# Altium footprint library Barsotion_PcbLib.PcbLib: 66 footprints (part 4 of 5)
Each footprint in its own frame and in the unit in brackets; x right, y up, seen from the top. Pads: shape width x height; smd on the part's side, far side on the other; paste and mask are expansions set on the pad; w line width, h text height; cw(c..) or ccw(c..) is an arc to the next point about the centre after c.
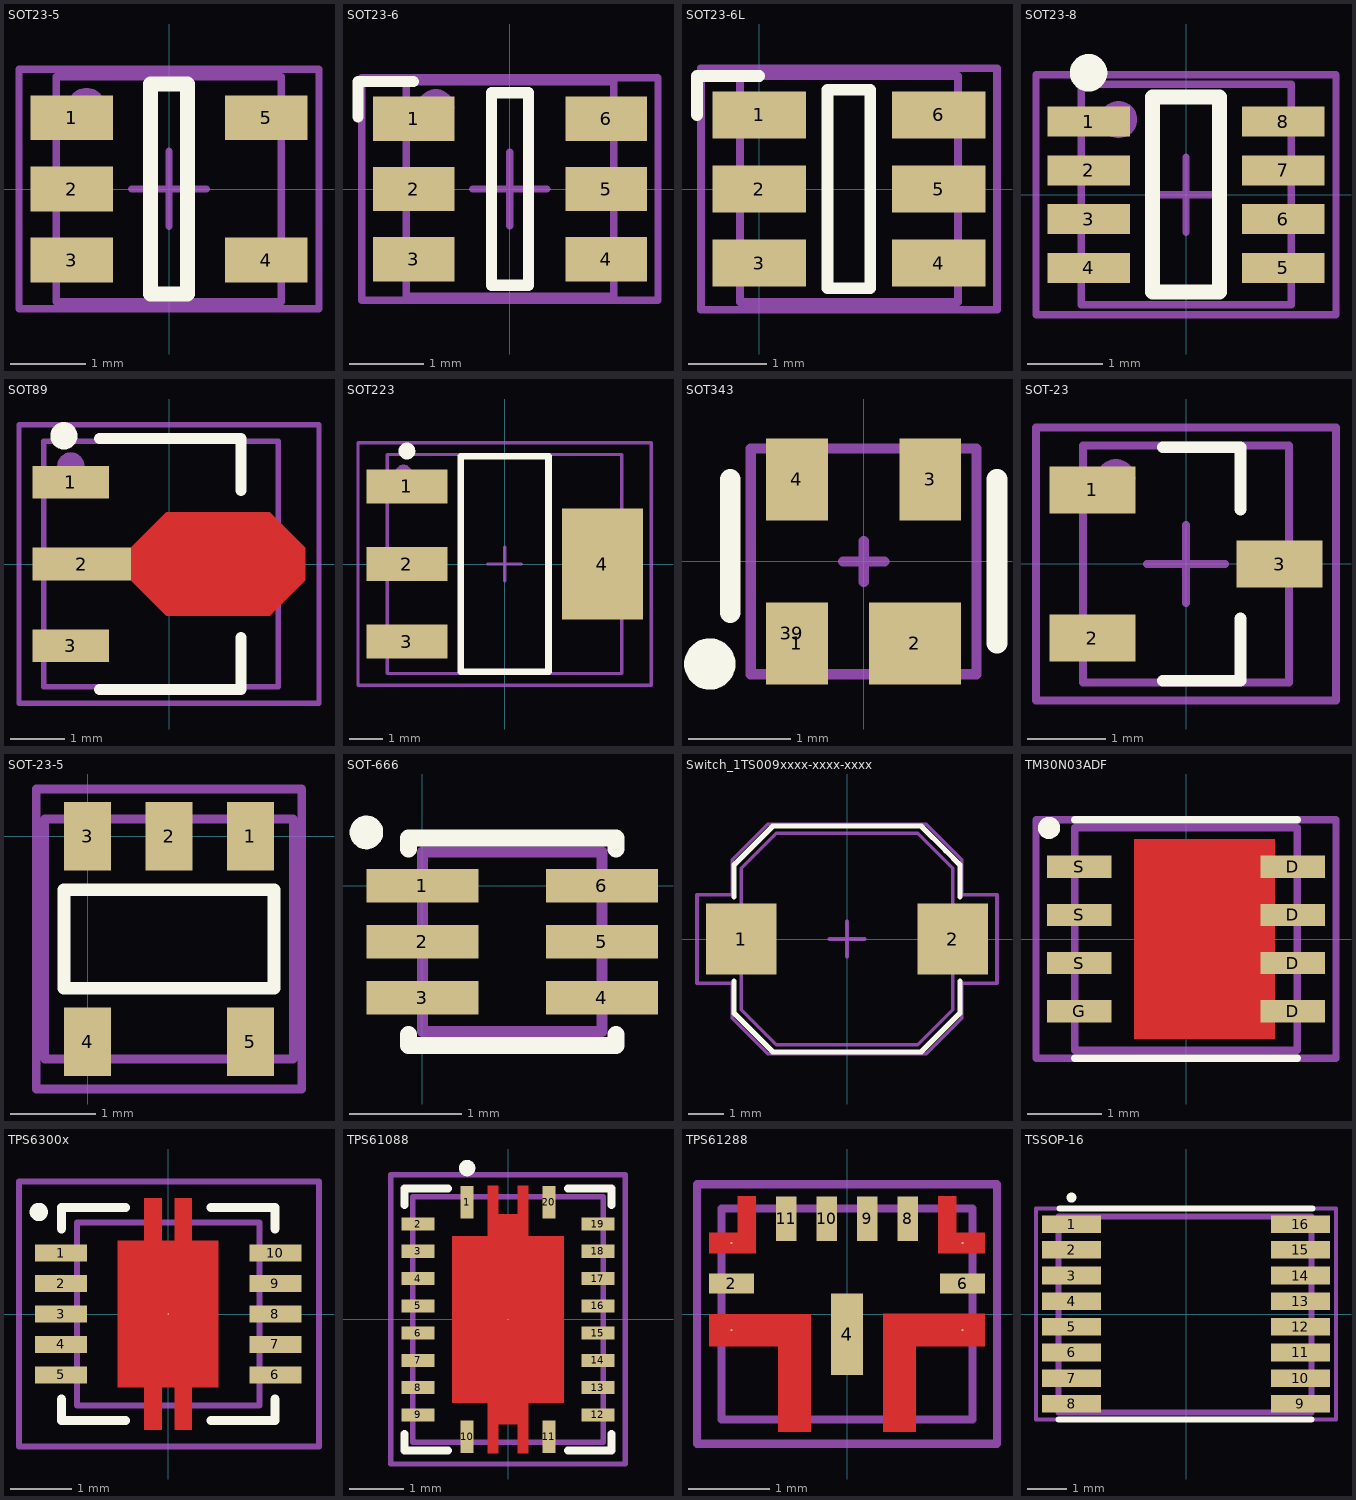
[diagram p3: the footprints below, top view; thin cyan lines are the x and y axes]

## SOT23-5 [mm] "pitch 0.95 mm"
height 1.45
pads (6):
  rect 1.1x0.6 smd: 1(-1.3,0.95) 2(-1.3,0) 3(-1.3,-0.95) 4(1.3,-0.95) 5(1.3,0.95)
  round 0.5 on Mech1: ""(-1.1,1.1)
Top Overlay:
  lines w0.2: -0.25,-1.4 -0.25,1.4 0.25,1.4 0.25,-1.4 -0.25,-1.4
Mechanical 13:
  lines w0.1: -1.5,-1.5 -1.5,1.5 1.5,1.5 1.5,-1.5 -1.5,-1.5
Mechanical 15:
  lines w0.1: -0.5,0 0.5,0 ; 0,-0.5 0,0.5 ; -2,-1.6 2,-1.6 2,1.6 -2,1.6 -2,-1.6
3D body "SOT23-5-1.step": height 1.3, standoff 0, extent -1.5,-1.5 1.5,1.5

## SOT23-6 [mm] "pitch 0.95 mm"
height 1.1
pads (7):
  rect 1.1x0.6 smd: 1(-1.3,0.95) 2(-1.3,0) 3(-1.3,-0.95) 4(1.3,-0.95) 5(1.3,0) 6(1.3,0.95)
  round 0.5 on Mech1: ""(-1,1.1)
Top Overlay:
  lines w0.15: -2.05,0.975 -2.05,1.45 -1.3,1.45 ; -0.25,-1.3 0.25,-1.3 0.25,1.3 -0.25,1.3 -0.25,-1.3
Mechanical 13:
  lines w0.1: -1.4,-1.45 1.4,-1.45 1.4,1.45 -1.4,1.45 -1.4,-1.45
Mechanical 15:
  lines w0.1: -0.5,0 0.5,0 ; 0,-0.5 0,0.5 ; -2,-1.5 -2,1.5 2,1.5 2,-1.5 -2,-1.5
3D body "User Library-SOT23-6-2.STEP": height 1.45, standoff 0, extent -1.4,-1.45 1.4,1.45

## SOT23-6L [mm]
pads (6):
  rect 1.2x0.6 smd: 1(0,0.95) 2(0,0) 3(0,-0.95) 4(2.3,-0.95) 5(2.3,0)
  rect 1.2x0.6 smd paste+0 mask+0.102: 6(2.3,0.95)
Top Overlay:
  lines w0.15: -0.8,0.95 -0.8,1.425 -0.8,1.45 0,1.45 ; 0.875,-1.275 1.425,-1.275 1.425,1.275 0.875,1.275 0.875,-1.275
Mechanical 13:
  lines w0.1: -0.25,-1.45 2.55,-1.45 2.55,1.45 -0.25,1.45 -0.25,-1.45
Mechanical 15:
  lines w0.1: -0.75,-1.55 3.05,-1.55 3.05,1.55 -0.75,1.55 -0.75,-1.55
3D body "SOT-23-6.step": height 1.55, standoff 0, extent -0.25,-1.45 2.55,1.45

## SOT23-8 [mm] "pitch 0.95 mm"
height 1.45
pads (9):
  rect 1.1x0.4 smd: 1(-1.3,0.975) 2(-1.3,0.325) 3(-1.3,-0.325) 4(-1.3,-0.975) 5(1.3,-0.975) 6(1.3,-0.325) 7(1.3,0.325) 8(1.3,0.975)
  round 0.5 on Mech1: ""(-0.9,1)
Top Overlay:
  circle w0.25: c-1.3,1.625 r0.125
  lines w0.2: -0.45,-1.3 0.45,-1.3 0.45,1.3 -0.45,1.3 -0.45,-1.3
Mechanical 1:
  lines w0.1: -1.4,-1.47 1.4,-1.47 1.4,1.47 -1.4,1.47 -1.4,-1.47
Mechanical 15:
  lines w0.1: -0.5,0 0.5,0 ; 0,-0.5 0,0.5 ; -2,-1.6 2,-1.6 2,1.6 -2,1.6 -2,-1.6
3D body "User Library-sot238.STEP": height 1.2, standoff 0, extent -1.4,-1.495 1.4,1.445

## SOT89 [mm]
height 1.6
pads (4):
  rect 1.4x0.6 smd: 1(-1.8,1.5) 3(-1.8,-1.5)
  rect 1.8x0.6 smd: 2(-1.6,0)
  round 0.5 on Mech1: ""(-1.8,1.8)
Top Layer:
  region: -0.7,0.3 -0.05,0.95 1.85,0.95 2.5,0.3 2.5,-0.3 1.85,-0.95 -0.05,-0.95 -0.7,-0.3
Top Overlay:
  circle w0.25: c-1.927,2.35 r0.125
  lines w0.2: -1.278,-2.3 1.322,-2.3 1.322,-1.35 ; -1.278,2.3 1.322,2.3 1.322,1.35
Mechanical 1:
  lines w0.1: -2.3,-2.25 -2.3,2.25 2,2.25 2,-2.25 -2.3,-2.25
Mechanical 15:
  lines w0.1: -0.477,0 0.523,0 ; 0.022,-0.5 0.022,0.5 ; -2.75,-2.55 2.75,-2.55 2.75,2.55 -2.75,2.55 -2.75,-2.55
3D body "SOT-89.step": height 1.51, standoff 0, extent -2.3,-2.25 2,2.25

## SOT223 [mm] "SOT223, 4-Leads, Body 6,50x7,00mm (avg), Pitch 2,30mm, IPC Medium Density"
height 1.8
pads (5):
  rect 2.4x1 smd: 1(-2.9,2.3) 2(-2.9,0) 3(-2.9,-2.3)
  rect 2.4x3.3 smd: 4(2.9,0)
  round 0.5 on Mech1: ""(-3,2.7)
Top Overlay:
  circle w0.25: c-2.9,3.35 r0.125
  lines w0.2: -1.3,-3.2 -1.3,3.2 1.3,3.2 1.3,-3.2 -1.3,-3.2
Mechanical 1:
  lines w0.1: -3.48,-3.25 3.48,-3.25 3.48,3.25 -3.48,3.25 -3.48,-3.25
Mechanical 15:
  lines w0.1: -0.5,0 0.5,0 ; 0,-0.5 0,0.5 ; -4.35,-3.6 -4.35,3.6 4.35,3.6 4.35,-3.6 -4.35,-3.6
3D body "SOT-223-3.step": height 1.65, standoff -0.03, extent -3.48,-3.25 3.48,3.25

## SOT343 [mm]
height 0.9
pads (5):
  rect 0.6x0.8 smd: 1(-0.65,-0.8) 3(0.65,0.8) 4(-0.65,0.8)
  rect 0.9x0.8 smd: 2(0.5,-0.8)
  round 0.5 on Mech1: 39(-0.7,-0.7)
Top Overlay:
  circle w0.25: c-1.5,-1 r0.125
  lines w0.2: -1.3,-0.5 -1.3,0.8 ; 1.3,-0.8 1.3,0.8
Mechanical 1:
  lines w0.1: -1.1,-1.1 -1.1,1.1 1.1,1.1 1.1,-1.1 -1.1,-1.1
Mechanical 15:
  lines w0.1: -0.2,0 0.2,0 ; 0,-0.2 0,0.2 ; -1.1,-1.1 -1.1,1.1 1.1,1.1 1.1,-1.1 -1.1,-1.1
3D body "User Library-SOT343-1.STEP": height 1, standoff 0, extent -1.1,-1.1 1.1,1.1

## SOT-23 [mm]
height 1.1
pads (4):
  rect 1.1x0.6 smd: 1(-1.2,0.95) 2(-1.2,-0.95) 3(1.2,0)
  round 0.5 on Mech1: ""(-0.9,1.1)
Top Overlay:
  lines w0.15: -0.3,-1.5 0.7,-1.5 0.7,-0.7 ; -0.3,1.5 0.7,1.5 0.7,0.7
Mechanical 13:
  lines w0.1: -1.32,-1.52 -1.32,1.52 1.32,1.52 1.32,-1.52 -1.32,-1.52
Mechanical 15:
  lines w0.1: -0.5,0 0.5,0 ; 0,-0.5 0,0.5 ; -1.925,-1.75 1.925,-1.75 1.925,1.75 -1.925,1.75 -1.925,-1.75
3D body "SOT95P237X112-3N.step": height 1.12, standoff 0, extent -1.32,-1.52 1.32,1.52

## SOT-23-5 [mm]
pads (5):
  rect 0.55x0.8 smd mask+0.05: 1(1.9,0) 2(0.95,0) 3(0,0) 4(0,-2.4) 5(1.9,-2.4)
Top Overlay:
  lines w0.15: -0.275,-1.775 2.175,-1.775 2.175,-0.625 -0.275,-0.625 -0.275,-1.775
Mechanical 13:
  lines w0.1: -0.5,-2.6 2.4,-2.6 2.4,0.2 -0.5,0.2 -0.5,-2.6
Mechanical 15:
  lines w0.1: -0.6,-2.95 2.5,-2.95 2.5,0.55 -0.6,0.55 -0.6,-2.95
3D body "SOT-23-5.step": height 1.55, standoff 0, extent -0.5,-2.6 2.4,0.2

## SOT-666 [mm]
pads (6):
  rect 1x0.3 smd: 1(0,0) 2(0,-0.5) 3(0,-1) 4(1.6,-1) 5(1.6,-0.5) 6(1.6,0)
Top Overlay:
  circle w0.15: c-0.5,0.475 r0.075
  lines w0.15: -0.125,-1.325 -0.125,-1.425 1.725,-1.425 1.725,-1.325 ; -0.125,0.325 -0.125,0.425 1.725,0.425 1.725,0.325
Mechanical 13:
  lines w0.1: 0,-1.3 1.6,-1.3 1.6,0.3 0,0.3 0,-1.3
3D body "SOT-666.step": height 0.55, standoff 0, extent 0,-1.3 1.6,0.3

## Switch_1TS009xxxx-xxxx-xxxx [mm]
pads (2):
  rect 2x2 smd mask+0.05: 1(-3,0) 2(3,0)
Top Overlay:
  lines w0.15: -3.2,-1.2 -3.2,-2.1 -2.1,-3.2 2.1,-3.2 3.2,-2.1 3.2,-1.2 ; -3.2,1.2 -3.2,2.1 -2.1,3.2 0.1,3.2 2.1,3.2 2.8,2.5 3.2,2.1 3.2,1.2
Mechanical 1:
  lines w0.1: -0.5,0 0.5,0 ; 0,-0.5 0,0.5
Mechanical 13:
  lines w0.1: -3,-2 -3,2 -2,3 2,3 3,2 3,-2 2,-3 -2,-3 -3,-2
Mechanical 15:
  lines w0.1: -4.25,-1.25 -3.25,-1.25 -3.25,-2.25 -2.25,-3.25 2.25,-3.25 3.25,-2.25 3.25,-1.25 4.25,-1.25 4.25,1.25 3.25,1.25 3.25,2.25 2.25,3.25 -2.25,3.25 -3.25,2.25 -3.25,1.25 -4.25,1.25 -4.25,0 -4.25,-1.25
3D body "SW_Push_1TS009xxxx-xxxx-xxxx_6x6x5mm.step": height 5, standoff 0, extent -3.3,-3 3.3,3

## TM30N03ADF [mm]
pads (8):
  rect 0.875x0.3 smd mask+0.05: D(1.44,-0.975) D(1.44,-0.325) D(1.44,0.325) D(1.44,0.975) G(-1.44,-0.975) S(-1.44,-0.325) S(-1.44,0.325) S(-1.44,0.975)
Top Layer:
  rectangle: -0.7,-1.35 1.2,1.35
Top Overlay:
  circle w0.15: c-1.85,1.5 r0.075
  lines w0.1: -1.5,-1.61 1.5,-1.61 ; -1.5,1.61 1.5,1.61
Mechanical 13:
  lines w0.1: -1.5,-1.5 1.5,-1.5 1.5,1.5 -1.5,1.5 -1.5,-1.5
Mechanical 15:
  lines w0.1: -2.025,-1.61 2.025,-1.61 2.025,1.61 -2.025,1.61 -2.025,-1.61
3D body "DFN-8-1EP_3x3mm_P0.65mm_EP1.55x2.4mm.step": height 0.77, standoff 0, extent -1.5,-1.49 1.5,1.49

## TPS6300x [mm]
pads (11):
  rect 0.85x0.28 smd mask+0.07: 1(-1.76,1) 2(-1.76,0.5) 3(-1.76,0) 4(-1.76,-0.5) 5(-1.76,-1) 6(1.76,-1) 7(1.76,-0.5) 8(1.76,0) 9(1.76,0.5) 10(1.76,1)
  round 0.025 smd mask+0.07: 11(0,0)
Top Layer:
  region: -0.39,-1.9 -0.39,-1.2 -0.825,-1.2 -0.825,1.2 -0.39,1.2 -0.39,1.9 -0.11,1.9 -0.11,1.2 0.11,1.2 0.11,1.9 0.39,1.9 0.39,1.2 0.825,1.2 0.825,-1.2 0.39,-1.2 0.39,-1.9 0.11,-1.9 0.11,-1.2 -0.11,-1.2 -0.11,-1.9
Top Overlay:
  circle w0.15: c-2.125,1.675 r0.075
  lines w0.15: -1.75,-1.4 -1.75,-1.75 -0.7,-1.75 ; -1.75,1.4 -1.75,1.75 -0.7,1.75 ; 0.7,-1.75 1.75,-1.75 1.75,-1.4 ; 0.7,1.75 1.75,1.75 1.75,1.4
Mechanical 13:
  lines w0.1: -1.5,-1.5 -1.5,1.5 1.5,1.5 1.5,-1.5 -1.5,-1.5
Mechanical 15:
  lines w0.1: -2.45,-2.175 2.475,-2.175 2.475,2.175 -2.45,2.175 -2.45,-2.175
3D body "Texas_S-PVSON-N10.step": height 0.92, standoff 0, extent -1.5,-1.5 1.5,1.5

## TPS61088 [mm]
pads (21):
  rect 0.24x0.6 smd mask+0.05: 1(-0.75,2.15) 10(-0.75,-2.15) 11(0.75,-2.15) 20(0.75,2.15)
  rect 0.6x0.24 smd mask+0.05: 2(-1.65,1.75) 3(-1.65,1.25) 4(-1.65,0.75) 5(-1.65,0.25) 6(-1.65,-0.25) 7(-1.65,-0.75) 8(-1.65,-1.25) 9(-1.65,-1.75) 12(1.65,-1.75) 13(1.65,-1.25) 14(1.65,-0.75) 15(1.65,-0.25) 16(1.65,0.25) 17(1.65,0.75) 18(1.65,1.25) 19(1.65,1.75)
  round 0.025 smd mask+0.05: 21(0,0)
Top Layer:
  region: -0.375,-2.45 -0.375,-1.525 -1.025,-1.525 -1.025,1.525 -0.375,1.525 -0.375,2.45 -0.175,2.45 -0.175,1.925 0.175,1.925 0.175,2.45 0.375,2.45 0.375,1.525 1.025,1.525 1.025,-1.525 0.375,-1.525 0.375,-2.45 0.175,-2.45 0.175,-1.925 -0.175,-1.925 -0.175,-2.45
Top Overlay:
  circle w0.15: c-0.75,2.775 r0.075
  lines w0.15: -1.9,-2.1 -1.9,-2.4 -1.1,-2.4 ; -1.9,2.1 -1.9,2.4 -1.1,2.4 ; 1.1,-2.4 1.9,-2.4 1.9,-2.1 ; 1.1,2.4 1.9,2.4 1.9,2.1
Mechanical 13:
  lines w0.1: -1.75,-2.25 1.75,-2.25 1.75,2.25 -1.75,2.25 -1.75,-2.25
Mechanical 15:
  lines w0.1: -2.15,-2.65 2.15,-2.65 2.15,2.65 -2.15,2.65 -2.15,-2.65

## TPS61288 [mm]
pads (11):
  round 0.025 smd mask+0.05: 1(-1.425,0.875) 3(-1.425,-0.2) 5(1.425,-0.2) 7(1.425,0.875)
  rect 0.55x0.25 smd mask+0.05: 2(-1.425,0.375) 6(1.425,0.375)
  rect 0.4x1 smd mask+0.05: 4(0,-0.25)
  rect 0.25x0.55 smd mask+0.05: 8(0.75,1.175) 9(0.25,1.175) 10(-0.25,1.175) 11(-0.75,1.175)
Top Layer:
  region: 1.7,0 0.45,0 0.45,-1.45 0.85,-1.45 0.85,-0.4 1.7,-0.4
  region: -1.7,0 -0.45,0 -0.45,-1.45 -0.85,-1.45 -0.85,-0.4 -1.7,-0.4
  region: -1.7,0.75 -1.125,0.75 -1.125,1.45 -1.35,1.45 -1.35,1 -1.7,1
  region: 1.125,1.45 1.125,0.75 1.7,0.75 1.7,1 1.35,1 1.35,1.45
Mechanical 13:
  lines w0.1: -1.55,-1.3 1.55,-1.3 1.55,1.3 -1.55,1.3 -1.55,-1.3
Mechanical 15:
  lines w0.1: -1.85,-1.6 1.85,-1.6 1.85,1.6 -1.85,1.6 -1.85,-1.6
3D body: height 1, standoff 0, extent -1.56,-1.3 1.55,1.306

## TSSOP-16 [mm]
pads (16):
  rect 1.5x0.45 smd: 1(-2.9,2.275) 2(-2.9,1.625) 3(-2.9,0.975) 4(-2.9,0.325) 5(-2.9,-0.325) 6(-2.9,-0.975) 7(-2.9,-1.625) 8(-2.9,-2.275) 9(2.9,-2.275) 10(2.9,-1.625) 11(2.9,-0.975) 12(2.9,-0.325) 13(2.9,0.325) 14(2.9,0.975) 15(2.9,1.625) 16(2.9,2.275)
Top Overlay:
  circle w0.15: c-2.9,2.95 r0.05
  lines w0.15: -3.225,-2.675 3.175,-2.675 ; -3.2,2.675 3.2,2.675
Mechanical 13:
  lines w0.15: -3.225,-2.5 3.175,-2.5 3.175,2.475 -3.225,2.475 -3.225,-2.5
Mechanical 15:
  lines w0.1: -3.8,-2.675 3.8,-2.675 3.8,2.675 -3.8,2.675 -3.8,-2.675
3D body "TSSOP-16_4.4x5mm_P0.65mm.step": height 1.1, standoff 0, extent -3.2,-2.5 3.2,2.5